# EAGLE library part XC7S25_CSGA225 (library XC7S25CSGA225_new)
xc7s25_csga225 edit this description Auto generated by make-symbol-device-package-bsdl.ulp Rev. 44 Source: xc7s25_csga225.bsd
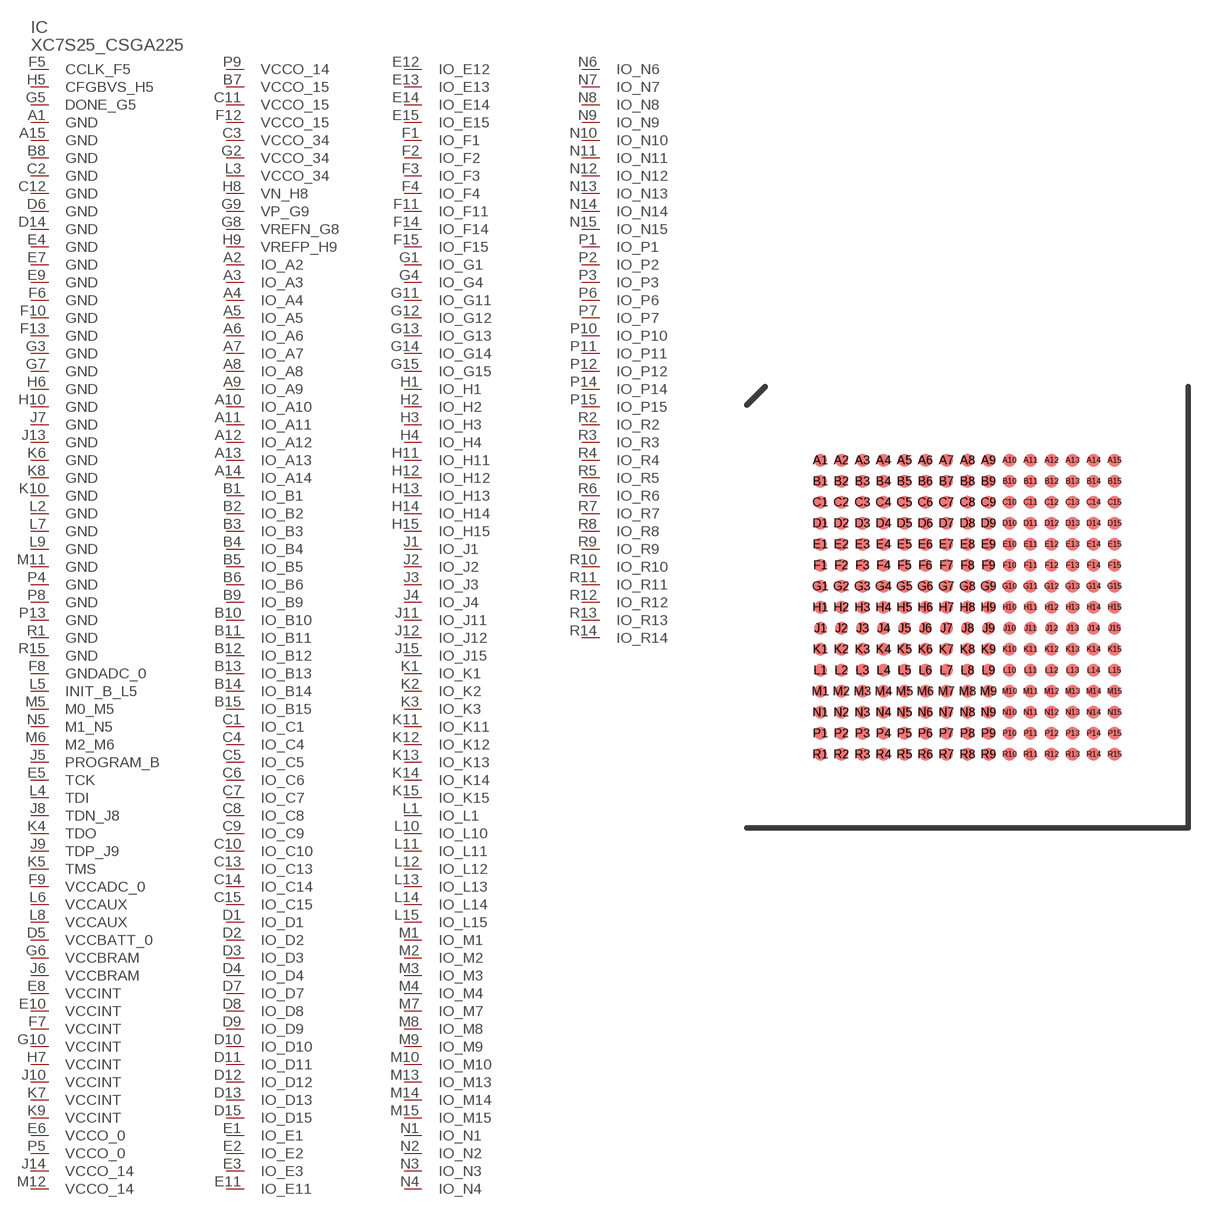
[diagram p0: symbol with the pads of CSGA225; footprint CSGA225]

Designator prefix IC

## XC7S25_CSGA225  [CSGA225]
A1  GND  pwr
A2  IO_A2
A3  IO_A3
A4  IO_A4
A5  IO_A5
A6  IO_A6
A7  IO_A7
A8  IO_A8
A9  IO_A9
A10  IO_A10
A11  IO_A11
A12  IO_A12
A13  IO_A13
A14  IO_A14
A15  GND  pwr
B1  IO_B1
B2  IO_B2
B3  IO_B3
B4  IO_B4
B5  IO_B5
B6  IO_B6
B7  VCCO_15  pwr
B8  GND  pwr
B9  IO_B9
B10  IO_B10
B11  IO_B11
B12  IO_B12
B13  IO_B13
B14  IO_B14
B15  IO_B15
C1  IO_C1
C2  GND  pwr
C3  VCCO_34  pwr
C4  IO_C4
C5  IO_C5
C6  IO_C6
C7  IO_C7
C8  IO_C8
C9  IO_C9
C10  IO_C10
C11  VCCO_15  pwr
C12  GND  pwr
C13  IO_C13
C14  IO_C14
C15  IO_C15
D1  IO_D1
D2  IO_D2
D3  IO_D3
D4  IO_D4
D5  VCCBATT_0  pwr
D6  GND  pwr
D7  IO_D7
D8  IO_D8
D9  IO_D9
D10  IO_D10
D11  IO_D11
D12  IO_D12
D13  IO_D13
D14  GND  pwr
D15  IO_D15
E1  IO_E1
E2  IO_E2
E3  IO_E3
E4  GND  pwr
E5  TCK  in
E6  VCCO_0  pwr
E7  GND  pwr
E8  VCCINT  pwr
E9  GND  pwr
E10  VCCINT  pwr
E11  IO_E11
E12  IO_E12
E13  IO_E13
E14  IO_E14
E15  IO_E15
F1  IO_F1
F2  IO_F2
F3  IO_F3
F4  IO_F4
F5  CCLK_F5
F6  GND  pwr
F7  VCCINT  pwr
F8  GNDADC_0  pwr
F9  VCCADC_0  pwr
F10  GND  pwr
F11  IO_F11
F12  VCCO_15  pwr
F13  GND  pwr
F14  IO_F14
F15  IO_F15
G1  IO_G1
G2  VCCO_34  pwr
G3  GND  pwr
G4  IO_G4
G5  DONE_G5
G6  VCCBRAM  pwr
G7  GND  pwr
G8  VREFN_G8  pas
G9  VP_G9  pas
G10  VCCINT  pwr
G11  IO_G11
G12  IO_G12
G13  IO_G13
G14  IO_G14
G15  IO_G15
H1  IO_H1
H2  IO_H2
H3  IO_H3
H4  IO_H4
H5  CFGBVS_H5  in
H6  GND  pwr
H7  VCCINT  pwr
H8  VN_H8  pas
H9  VREFP_H9  pas
H10  GND  pwr
H11  IO_H11
H12  IO_H12
H13  IO_H13
H14  IO_H14
H15  IO_H15
J1  IO_J1
J2  IO_J2
J3  IO_J3
J4  IO_J4
J5  PROGRAM_B  in
J6  VCCBRAM  pwr
J7  GND  pwr
J8  TDN_J8  pas
J9  TDP_J9  pas
J10  VCCINT  pwr
J11  IO_J11
J12  IO_J12
J13  GND  pwr
J14  VCCO_14  pwr
J15  IO_J15
K1  IO_K1
K2  IO_K2
K3  IO_K3
K4  TDO  out
K5  TMS  in
K6  GND  pwr
K7  VCCINT  pwr
K8  GND  pwr
K9  VCCINT  pwr
K10  GND  pwr
K11  IO_K11
K12  IO_K12
K13  IO_K13
K14  IO_K14
K15  IO_K15
L1  IO_L1
L2  GND  pwr
L3  VCCO_34  pwr
L4  TDI  in
L5  INIT_B_L5
L6  VCCAUX  pwr
L7  GND  pwr
L8  VCCAUX  pwr
L9  GND  pwr
L10  IO_L10
L11  IO_L11
L12  IO_L12
L13  IO_L13
L14  IO_L14
L15  IO_L15
M1  IO_M1
M2  IO_M2
M3  IO_M3
M4  IO_M4
M5  M0_M5  in
M6  M2_M6  in
M7  IO_M7
M8  IO_M8
M9  IO_M9
M10  IO_M10
M11  GND  pwr
M12  VCCO_14  pwr
M13  IO_M13
M14  IO_M14
M15  IO_M15
N1  IO_N1
N2  IO_N2
N3  IO_N3
N4  IO_N4
N5  M1_N5  in
N6  IO_N6
N7  IO_N7
N8  IO_N8
N9  IO_N9
N10  IO_N10
N11  IO_N11
N12  IO_N12
N13  IO_N13
N14  IO_N14
N15  IO_N15
P1  IO_P1
P2  IO_P2
P3  IO_P3
P4  GND  pwr
P5  VCCO_0  pwr
P6  IO_P6
P7  IO_P7
P8  GND  pwr
P9  VCCO_14  pwr
P10  IO_P10
P11  IO_P11
P12  IO_P12
P13  GND  pwr
P14  IO_P14
P15  IO_P15
R1  GND  pwr
R2  IO_R2
R3  IO_R3
R4  IO_R4
R5  IO_R5
R6  IO_R6
R7  IO_R7
R8  IO_R8
R9  IO_R9
R10  IO_R10
R11  IO_R11
R12  IO_R12
R13  IO_R13
R14  IO_R14
R15  GND  pwr

## Footprint CSGA225 (pad centres in mm)
xc7s25_csga225 edit this description Auto generated by make-symbol-device-package-bsdl.ulp Rev. 44 Source: xc7s25_csga225.bsd
smd 0.5 x 0.5: A1 -5.6,5.6; A2 -4.8,5.6; A3 -4,5.6; A4 -3.2,5.6; A5 -2.4,5.6; A6 -1.6,5.6; A7 -0.8,5.6; A8 0,5.6; A9 0.8,5.6; A10 1.6,5.6; A11 2.4,5.6; A12 3.2,5.6; A13 4,5.6; A14 4.8,5.6; A15 5.6,5.6; B1 -5.6,4.8; B2 -4.8,4.8; B3 -4,4.8; B4 -3.2,4.8; B5 -2.4,4.8; B6 -1.6,4.8; B7 -0.8,4.8; B8 0,4.8; B9 0.8,4.8; B10 1.6,4.8; B11 2.4,4.8; B12 3.2,4.8; B13 4,4.8; B14 4.8,4.8; B15 5.6,4.8; C1 -5.6,4; C2 -4.8,4; C3 -4,4; C4 -3.2,4; C5 -2.4,4; C6 -1.6,4; C7 -0.8,4; C8 0,4; C9 0.8,4; C10 1.6,4; C11 2.4,4; C12 3.2,4; C13 4,4; C14 4.8,4; C15 5.6,4; D1 -5.6,3.2; D2 -4.8,3.2; D3 -4,3.2; D4 -3.2,3.2; D5 -2.4,3.2; D6 -1.6,3.2; D7 -0.8,3.2; D8 0,3.2; D9 0.8,3.2; D10 1.6,3.2; D11 2.4,3.2; D12 3.2,3.2; D13 4,3.2; D14 4.8,3.2; D15 5.6,3.2; E1 -5.6,2.4; E2 -4.8,2.4; E3 -4,2.4; E4 -3.2,2.4; E5 -2.4,2.4; E6 -1.6,2.4; E7 -0.8,2.4; E8 0,2.4; E9 0.8,2.4; E10 1.6,2.4; E11 2.4,2.4; E12 3.2,2.4; E13 4,2.4; E14 4.8,2.4; E15 5.6,2.4; F1 -5.6,1.6; F2 -4.8,1.6; F3 -4,1.6; F4 -3.2,1.6; F5 -2.4,1.6; F6 -1.6,1.6; F7 -0.8,1.6; F8 0,1.6; F9 0.8,1.6; F10 1.6,1.6; F11 2.4,1.6; F12 3.2,1.6; F13 4,1.6; F14 4.8,1.6; F15 5.6,1.6; G1 -5.6,0.8; G2 -4.8,0.8; G3 -4,0.8; G4 -3.2,0.8; G5 -2.4,0.8; G6 -1.6,0.8; G7 -0.8,0.8; G8 0,0.8; G9 0.8,0.8; G10 1.6,0.8; G11 2.4,0.8; G12 3.2,0.8; G13 4,0.8; G14 4.8,0.8; G15 5.6,0.8; H1 -5.6,0; H2 -4.8,0; H3 -4,0; H4 -3.2,0; H5 -2.4,0; H6 -1.6,0; H7 -0.8,0; H8 0,0; H9 0.8,0; H10 1.6,0; H11 2.4,0; H12 3.2,0; H13 4,0; H14 4.8,0; H15 5.6,0; J1 -5.6,-0.8; J2 -4.8,-0.8; J3 -4,-0.8; J4 -3.2,-0.8; J5 -2.4,-0.8; J6 -1.6,-0.8; J7 -0.8,-0.8; J8 0,-0.8; J9 0.8,-0.8; J10 1.6,-0.8; J11 2.4,-0.8; J12 3.2,-0.8; J13 4,-0.8; J14 4.8,-0.8; J15 5.6,-0.8; K1 -5.6,-1.6; K2 -4.8,-1.6; K3 -4,-1.6; K4 -3.2,-1.6; K5 -2.4,-1.6; K6 -1.6,-1.6; K7 -0.8,-1.6; K8 0,-1.6; K9 0.8,-1.6; K10 1.6,-1.6; K11 2.4,-1.6; K12 3.2,-1.6; K13 4,-1.6; K14 4.8,-1.6; K15 5.6,-1.6; L1 -5.6,-2.4; L2 -4.8,-2.4; L3 -4,-2.4; L4 -3.2,-2.4; L5 -2.4,-2.4; L6 -1.6,-2.4; L7 -0.8,-2.4; L8 0,-2.4; L9 0.8,-2.4; L10 1.6,-2.4; L11 2.4,-2.4; L12 3.2,-2.4; L13 4,-2.4; L14 4.8,-2.4; L15 5.6,-2.4; M1 -5.6,-3.2; M2 -4.8,-3.2; M3 -4,-3.2; M4 -3.2,-3.2; M5 -2.4,-3.2; M6 -1.6,-3.2; M7 -0.8,-3.2; M8 0,-3.2; M9 0.8,-3.2; M10 1.6,-3.2; M11 2.4,-3.2; M12 3.2,-3.2; M13 4,-3.2; M14 4.8,-3.2; M15 5.6,-3.2; N1 -5.6,-4; N2 -4.8,-4; N3 -4,-4; N4 -3.2,-4; N5 -2.4,-4; N6 -1.6,-4; N7 -0.8,-4; N8 0,-4; N9 0.8,-4; N10 1.6,-4; N11 2.4,-4; N12 3.2,-4; N13 4,-4; N14 4.8,-4; N15 5.6,-4; P1 -5.6,-4.8; P2 -4.8,-4.8; P3 -4,-4.8; P4 -3.2,-4.8; P5 -2.4,-4.8; P6 -1.6,-4.8; P7 -0.8,-4.8; P8 0,-4.8; P9 0.8,-4.8; P10 1.6,-4.8; P11 2.4,-4.8; P12 3.2,-4.8; P13 4,-4.8; P14 4.8,-4.8; P15 5.6,-4.8; R1 -5.6,-5.6; R2 -4.8,-5.6; R3 -4,-5.6; R4 -3.2,-5.6; R5 -2.4,-5.6; R6 -1.6,-5.6; R7 -0.8,-5.6; R8 0,-5.6; R9 0.8,-5.6; R10 1.6,-5.6; R11 2.4,-5.6; R12 3.2,-5.6; R13 4,-5.6; R14 4.8,-5.6; R15 5.6,-5.6